# EAGLE library part CC6-1205SF-E (library CC6-1205SF-E)
dcdc,convertor TDK-Lambda Through Hole Isolated DC-DC Converter, I/O isolation 500V ac, Vout 5V dc Source: Datasheet <https://product.tdk.com/system/files/dam/doc/product/power/switching-power/dc-dc-converter/catalog/cc-e_e.pdf>
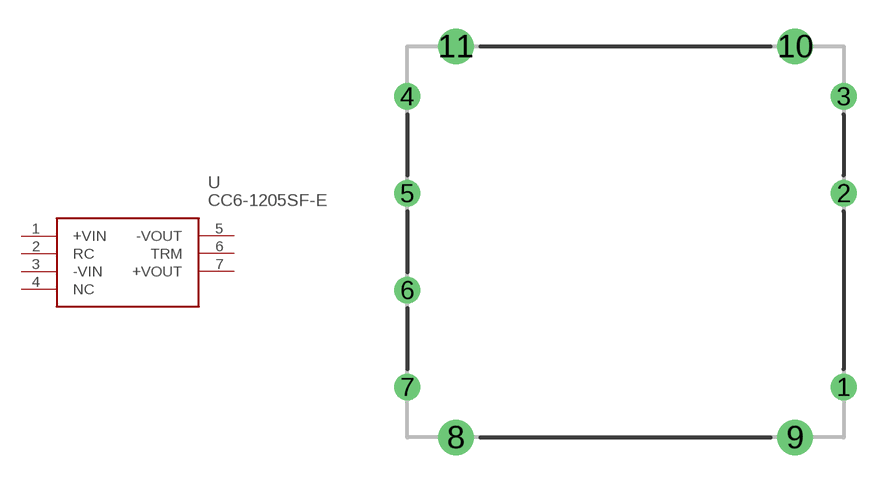
[diagram p0: symbol with the pads of CC6_SF; footprint CC6_SF]

Designator prefix U

## CC6-1205SF-E (Arrow_Part_Number: CC6-1205SF-E; Arrow_Price-Stock: https://www.arrow.com/en/products/cc6-1205sf-e/tdk-lambda-americas?region=nac; Description: dcdc,convertor TDK-Lambda Through Hole Isolated DC-DC Converter, I/O isolation 500V ac, Vout 5V dc; Height: mm; Manufacturer_Name: TDK; Manufacturer_Part_Number: CC6-1205SF-E; Mouser_Part_Number: 967-CC6-1205SF-E; Mouser_Price-Stock: https://www.mouser.co.uk/ProductDetail/TDK-Lambda/CC6-1205SF-E?qs=Vwh6e7toGLhaPHzXVKmH%252BA%3D%3D)  [CC6_SF]
1  +VIN
2  RC
3  -VIN
4  NC  nc
5  -VOUT
6  TRM
7  +VOUT

## Footprint CC6_SF (pad centres in mm)
CC6_SF
drill 0.87 pad 1.37: 1 22.86,-12.7; 2 22.86,-2.54; 3 22.86,2.54; 4 0,2.54; 5 0,-2.54; 6 0,-7.62; 7 0,-12.7
drill 1.24 pad 1.84: 8 2.54,-15.33; 9 20.32,-15.33; 10 20.32,5.17; 11 2.54,5.17